# Altium footprint library CL31B104KBCNNNC.PcbLib: 2 footprints
Each footprint in its own frame and in the unit in brackets; x right, y up, seen from the top. Pads: shape width x height; smd on the part's side, far side on the other; paste and mask are expansions set on the pad; w line width, h text height; cw(c..) or ccw(c..) is an arc to the next point about the centre after c.
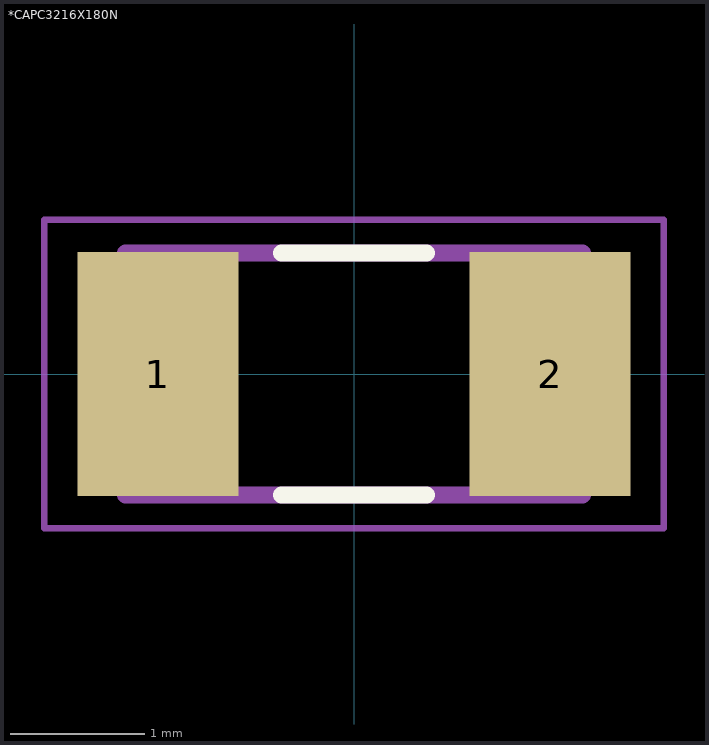
[diagram p0: the footprints below, top view; thin cyan lines are the x and y axes]

## *CAPC3216X180N [mm]
pads (2):
  rect 1.2x1.82 smd: 1(-1.46,0) 2(1.46,0)
Top Overlay:
  lines w0.127: -0.54,-0.9 0.54,-0.9 ; -0.54,0.9 0.54,0.9
Mechanical 4:
  lines w0.127: -1.7,-0.9 -1.7,0.9 ; -1.7,-0.9 1.7,-0.9 ; -1.7,-0.9 -1.7,0.9 ; -1.7,-0.9 1.7,-0.9 ; -1.7,0.9 1.7,0.9 ; -1.7,0.9 1.7,0.9 ; 1.7,-0.9 1.7,0.9 ; 1.7,-0.9 1.7,0.9
Mechanical 16:
  lines w0.05: -2.308,-1.15 -2.308,1.15 2.308,1.15 2.308,-1.15 -2.308,-1.15

## PCBComponent_1 [mm]